# EAGLE library part LP-24VA (library trafo-signal)
TRANSFORMER
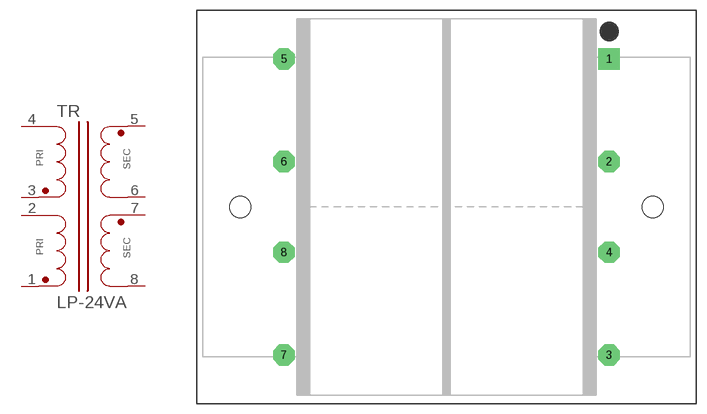
[diagram p0: symbol with the pads of LP-24VA; footprint LP-24VA]

Designator prefix TR

## LP-24VA  [LP-24VA]
1  1  pas
2  2  pas
3  3  pas
4  4  pas
5  5  pas
6  6  pas
7  7  pas
8  8  pas

## Footprint LP-24VA (pad centres in mm)
PC Series - 24VA
drill 1.422 pad 3.175 square: 1 24.13,21.971
drill 1.422 pad 3.175 octagon: 2 24.13,6.731; 3 24.13,-21.971; 4 24.13,-6.731; 5 -24.13,21.971; 6 -24.13,6.731; 7 -24.13,-21.971; 8 -24.13,-6.731
hole 3.175 at -30.607,0
hole 3.175 at 30.607,0